# Altium footprint library Conectors.PcbLib: 137 footprints (part 7 of 9)
Each footprint in its own frame and in the unit in brackets; x right, y up, seen from the top. Pads: shape width x height; smd on the part's side, far side on the other; paste and mask are expansions set on the pad; w line width, h text height; cw(c..) or ccw(c..) is an arc to the next point about the centre after c.
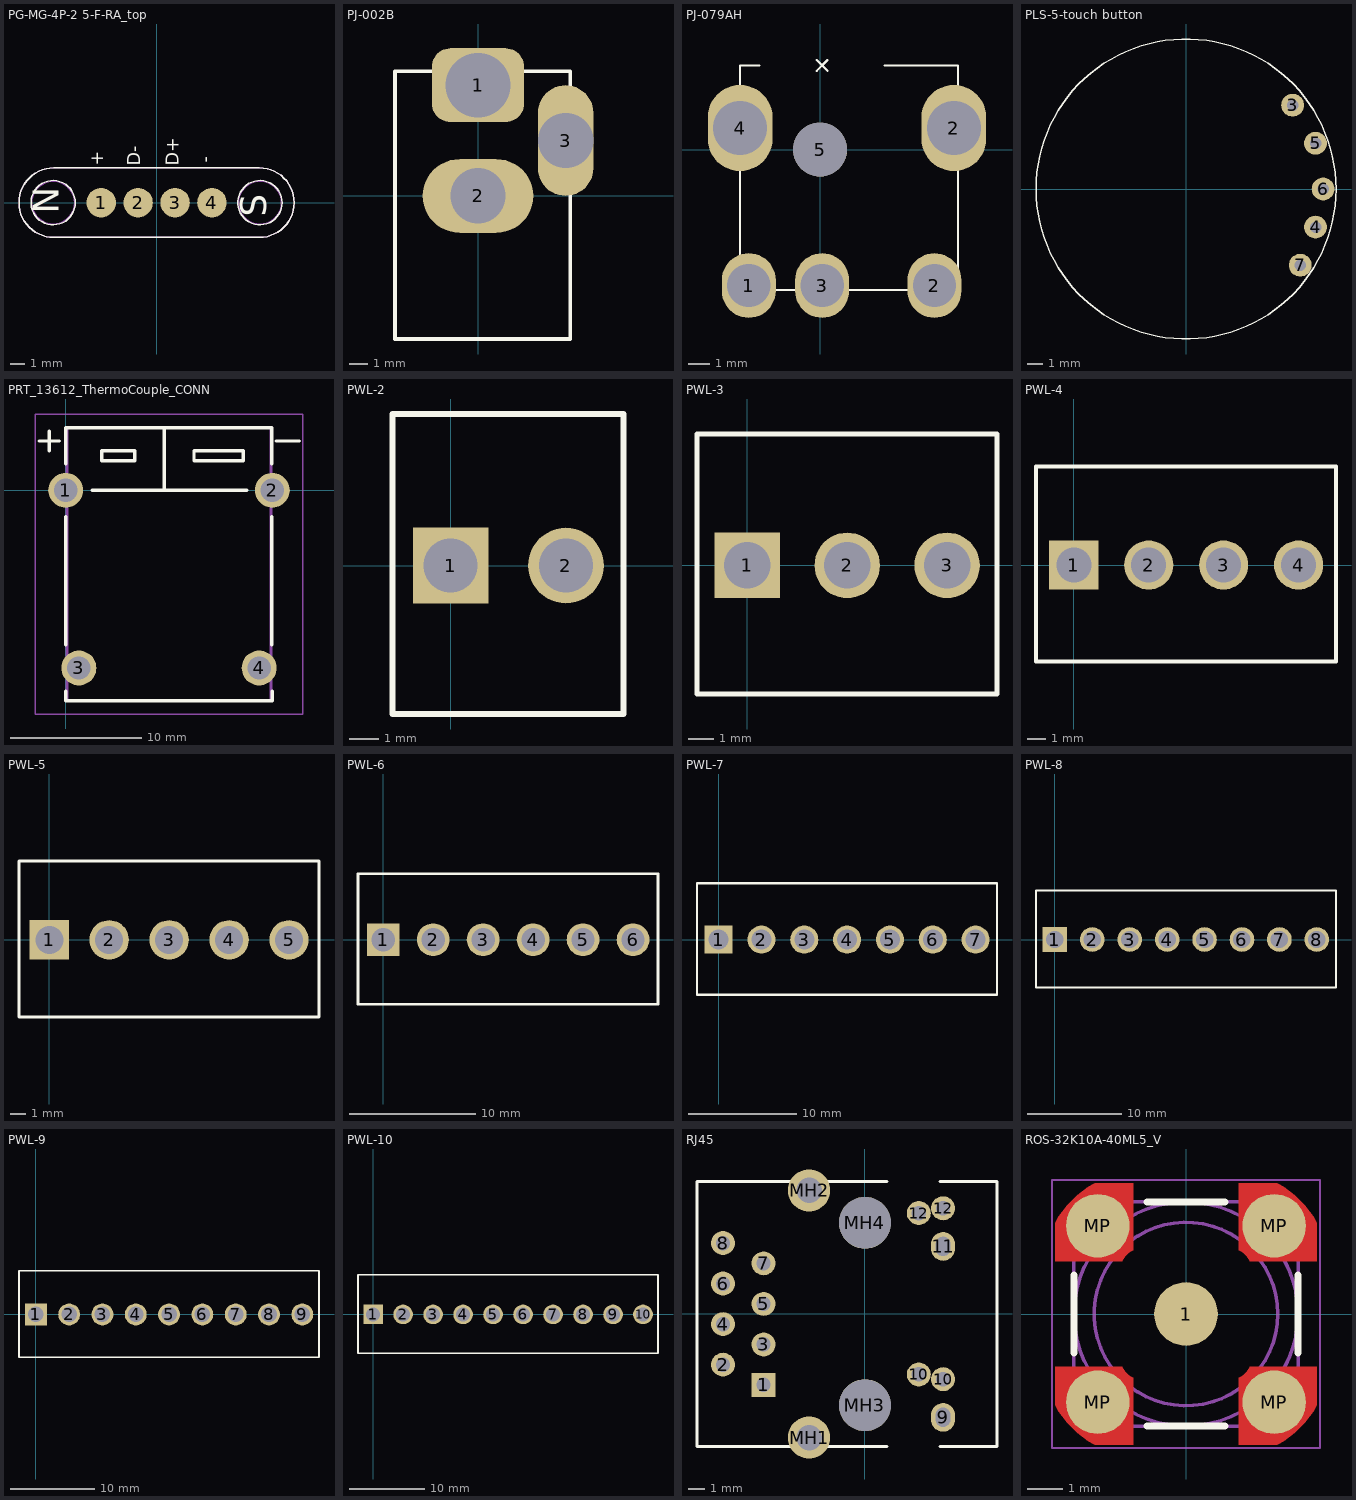
[diagram p6: the footprints below, top view; thin cyan lines are the x and y axes]

## PG-MG-4P-2 5-F-RA_top [mm]
pads (4):
  round 2 smd: 1(-3.75,0) 2(-1.25,0) 3(1.25,0) 4(3.75,0)
Top Overlay:
  circle w0.1: c-7,0 r1.5
  circle w0.1: c7,0 r1.5
  lines w0.1: -6.955,-2.355 cw(c-6.955,0) -6.955,2.355 6.955,2.355 cw(c6.955,0) 6.955,-2.355 -6.955,-2.355
  text "S" at 7.994,-0.963 h3
  text "-" at 4,2.7 h1.5
  text "D+" at 1.8,2.5 h1.5
  text "D-" at -0.8,2.5 h1.5
  text "+" at -3.3,2.5 h1.5
  text "N" at -6.039,-0.757 h3
Mechanical 13:
  circle w0.1: c7,0 r1.45
  circle w0.1: c-7,0 r1.45
Mechanical 15:
  lines w0.1: -6.955,-2.355 cw(c-6.955,0) -6.955,2.355 6.955,2.355 cw(c6.955,0) 6.955,-2.355 -6.955,-2.355
3D body: height 0.15, standoff -3, extent -8.45,-1.45 -5.55,1.45
3D body: height 0.15, standoff -3, extent 5.55,-1.45 8.45,1.45

## PJ-002B [mm] "2.5 mm Center Pin 2.5 A Right Angle Through Hole Dc Power Jack Connector"
height 11
pads (3):
  rrect50% 5x4 hole 3.5: 1(0,6)
  oval 6x4 hole 3: 2(0,0)
  oval 3x6 hole 3: 3(4.75,3)
Top Overlay:
  lines w0.2: -4.5,-7.75 -4.5,6.75 5,6.75 5,-7.75 -4.5,-7.75
3D body "pj-002b.stp": height 11.5, standoff -3, extent -4.4,-7.7 5,6.7

## PJ-079AH [mm]
height 7.3
pads (6):
  oval 2.5x3 hole 2: 1(-3.3,-6.3) 2(5.3,-6.3) 3(0.1,-6.3)
  oval 3x4 hole 2.5: 2(6.2,1) 4(-3.7,1)
  round 2.5 hole 2.5: 5(0,0)
Top Overlay:
  lines w0.1: -3.7,-7.6 -3.7,3.9 -2.8,3.9 ; -3.7,-6.5 6.4,-6.5 6.4,3.9 3,3.9 ; -0.15,3.65 0.35,4.15 ; -0.15,4.15 0.35,3.65
3D body "CUI_DEVICES_PJ-079AH.step": height 7.95, standoff -1.83, extent -3.67,-7.825 6.4,3.825

## PLS-5-touch button [mil]
pads (5):
  round 60 hole 30: 3(280,220) 4(340,-100) 5(340,120) 6(360,0) 7(300,-200)
Top Overlay:
  circle w3.94: c0,0 r393.7

## PRT_13612_ThermoCouple_CONN [mm]
pads (4):
  round 2.655 hole 1.77: 1(0,0) 2(15.7,0) 3(1,-13.5) 4(14.7,-13.5)
Top Overlay:
  lines w0.254: -2,3.75 -0.5,3.75 ; -1.25,3 -1.25,4.5 ; 0,-15.25 0,-16 15.7,-16 15.7,-15.25 ; 0,-11.75 0,-2 ; 0,2 0,4.75 15.65,4.75 15.65,2 ; 7.5,4.75 7.5,0 2,0 13.75,0 ; 10,3 9.75,3 ; 15.65,-11.75 15.65,-2 ; 16,3.75 17.75,3.75 ; 9.75,3 9.75,2.25 13.5,2.25 13.5,3 9.75,3 ; 2.75,2.25 5.25,2.25 5.25,3 2.75,3 2.75,2.25
Mechanical 13:
  lines w0.2: 0.1,-16 0.1,4.8 15.6,4.8 15.6,-16 0.1,-16
Mechanical 15:
  lines w0.1: -2.328,-17 -2.328,5.8 18.027,5.8 18.027,-17 -2.328,-17
3D body "PCC-SMP.STEP": height 6.96, standoff -4.14, extent 0,-16 15.7,4.8

## PWL-2 [mm] "Connector; Header; 2 Position"
height 0.001
pads (2):
  rect 2.6x2.6 hole 1.85: 1(0,0)
  round 2.6 hole 1.85: 2(3.96,0)
Top Overlay:
  lines w0.2: -2,-5.1 -2,5.207 5.94,5.207 5.94,-5.1 -2,-5.1
3D body "PWL-2.stp": height 13.5, standoff -4, extent -1.98,-5 5.94,5

## PWL-3 [mm] "Connector; Header; 3 Position"
height 0.001
pads (3):
  rect 2.6x2.6 hole 1.85: 1(0,0)
  round 2.6 hole 1.85: 2(3.96,0) 3(7.92,0)
Top Overlay:
  lines w0.2: -2,-5.1 9.9,-5.1 9.9,5.207 -2,5.207 -2,-5.1
3D body "PWL-3.stp": height 13.5, standoff -4, extent -1.98,-5 9.9,5

## PWL-4 [mm] "Connector; Header; 4 Position"
height 0.001
pads (4):
  rect 2.6x2.6 hole 1.85: 1(0,0)
  round 2.6 hole 1.85: 2(3.96,0) 3(7.92,0) 4(11.88,0)
Top Overlay:
  lines w0.2: -2,-5.1 13.86,-5.1 13.86,5.207 -2,5.207 -2,-5.1
3D body "PWL-4.stp": height 13.5, standoff -4, extent -1.98,-5 13.86,5

## PWL-5 [mm] "Connector; Header; 5 Position"
height 0.001
pads (5):
  rect 2.6x2.6 hole 1.85: 1(0,0)
  round 2.6 hole 1.85: 2(3.96,0) 3(7.92,0) 4(11.88,0) 5(15.84,0)
Top Overlay:
  lines w0.2: -2,-5.1 17.82,-5.1 17.82,5.207 -2,5.207 -2,-5.1
3D body "PWL-5.stp": height 13.5, standoff -4, extent -1.98,-5 17.82,5

## PWL-6 [mm] "Connector; Header; 6 Position"
height 0.001
pads (6):
  rect 2.6x2.6 hole 1.85: 1(0,0)
  round 2.6 hole 1.85: 2(3.96,0) 3(7.92,0) 4(11.88,0) 5(15.84,0) 6(19.8,0)
Top Overlay:
  lines w0.2: -2,-5.1 -2,5.207 21.78,5.207 21.78,-5.1 -2,-5.1
3D body "PWL-6.stp": height 13.5, standoff -4, extent -1.98,-5 21.78,5

## PWL-7 [mm] "Connector; Header; 7 Position"
height 0.001
pads (7):
  rect 2.6x2.6 hole 1.85: 1(0,0)
  round 2.6 hole 1.85: 2(3.96,0) 3(7.92,0) 4(11.88,0) 5(15.84,0) 6(19.8,0) 7(23.76,0)
Top Overlay:
  lines w0.2: -2,-5.1 25.74,-5.1 25.74,5.207 -2,5.207 -2,-5.1
3D body "PWL-7.stp": height 13.5, standoff -4, extent -1.98,-5 25.74,5

## PWL-8 [mm] "Connector; Header; 8 Position"
height 0.001
pads (8):
  rect 2.6x2.6 hole 1.85: 1(0,0)
  round 2.6 hole 1.85: 2(3.96,0) 3(7.92,0) 4(11.88,0) 5(15.84,0) 6(19.8,0) 7(23.76,0) 8(27.72,0)
Top Overlay:
  lines w0.2: -2,-5.1 -2,5.207 29.75,5.207 29.75,-5.1 -2,-5.1
3D body "PWL-8.stp": height 13.5, standoff -4, extent -1.962,-4.92 29.718,5.08

## PWL-9 [mm] "Connector; Header; 9 Position"
height 0.001
pads (9):
  rect 2.6x2.6 hole 1.85: 1(0,0)
  round 2.6 hole 1.85: 2(3.96,0) 3(7.92,0) 4(11.88,0) 5(15.84,0) 6(19.8,0) 7(23.76,0) 8(27.72,0) 9(31.68,0)
Top Overlay:
  lines w0.2: -2,-5.1 -2,5.207 33.66,5.207 33.66,-5.1 -2,-5.1
3D body "PWL-9.stp": height 13.5, standoff -4, extent -1.98,-5 33.66,5

## PWL-10 [mm] "Connector; Header; 10 Position"
height 0.001
pads (10):
  rect 2.6x2.6 hole 1.85: 1(0,0)
  round 2.6 hole 1.85: 2(3.96,0) 3(7.92,0) 4(11.88,0) 5(15.84,0) 6(19.8,0) 7(23.76,0) 8(27.72,0) 9(31.68,0) 10(35.64,0)
Top Overlay:
  lines w0.2: -2,-5.1 -2,5.207 37.62,5.207 37.62,-5.1 -2,-5.1
3D body "PWL-10.stp": height 13.5, standoff -4, extent -1.98,-5 37.62,5

## RJ45 [mm]
height 12
pads (18):
  rect 1.5x1.5 hole 0.9: 1(-6.35,-4.45)
  round 1.5 hole 0.9: 2(-8.89,-3.18) 3(-6.35,-1.91) 4(-8.89,-0.64) 5(-6.35,0.63) 6(-8.89,1.9) 7(-6.35,3.17) 8(-8.89,4.44) 10(3.38,-3.79) 10(4.9,-4.09) 12(3.38,6.32) 12(4.9,6.62)
  oval 1.5x1.8 hole 0.9 slot 1.2 at 90 deg: 9(4.9,-6.48) 11(4.9,4.23)
  round 2.65 hole 1.6: MH1(-3.5,-7.75) MH2(-3.5,7.74)
  round 3.25 hole 3.25 unplated: MH3(0,-5.72) MH4(0,5.71)
Top Overlay:
  lines w0.2: 1.378,-8.305 -10.52,-8.305 -10.52,8.295 1.378,8.295 ; 4.722,-8.305 8.28,-8.305 8.28,8.295 4.722,8.295
3D body "RJ-45-new.stp": height 12.71, standoff 0, extent -9.75,-7.51 7.75,7.51

## ROS-32K10A-40ML5_V [mm] "SMA Straight Jack, Press-Fit, 6.35x6.35x9.5mm, Rosenberger Recommended"
height 9.5
pads (5):
  round 1.8 smd: 1(0,0) MP(-2.5,-2.5) MP(-2.5,2.5) MP(2.5,-2.5) MP(2.5,2.5)
Top Layer:
  region: 1.5,1.8 1.549,1.777 1.64,1.716 1.716,1.639 1.777,1.549 1.8,1.5 3.7,1.5 3.7,2.587 3.608,2.765 3.371,3.088 3.088,3.371 2.765,3.608 2.587,3.7 1.5,3.7
  region: -1.8,1.5 -1.777,1.549 -1.716,1.64 -1.639,1.716 -1.549,1.777 -1.5,1.8 -1.5,3.7 -2.587,3.7 -2.765,3.608 -3.088,3.371 -3.371,3.088 -3.608,2.765 -3.7,2.587 -3.7,1.5
  region: -1.5,-1.8 -1.549,-1.777 -1.64,-1.716 -1.716,-1.639 -1.777,-1.549 -1.8,-1.5 -3.7,-1.5 -3.7,-2.587 -3.608,-2.765 -3.371,-3.088 -3.088,-3.371 -2.765,-3.608 -2.587,-3.7 -1.5,-3.7
  region: 1.8,-1.5 1.777,-1.549 1.716,-1.64 1.639,-1.716 1.549,-1.777 1.5,-1.8 1.5,-3.7 2.587,-3.7 2.765,-3.608 3.088,-3.371 3.371,-3.088 3.608,-2.765 3.7,-2.587 3.7,-1.5
Top Overlay:
  lines w0.2: -3.175,-1.1 -3.175,1.1 ; -1.1,-3.175 1.1,-3.175 ; -1.1,3.175 1.1,3.175 ; 3.175,-1.1 3.175,1.1
Mechanical 13:
  circle w0.1: c0,0 r0.635
  circle w0.1: c0,0 r2.6
  circle w0.1: c0,0 r3.175
  lines w0.1: -3.188,-2.811 ccw(c0,0) -2.811,-3.188 ; -3.188,2.811 cw(c0,0) -2.811,3.188 ; -3.175,-2.8 -3.175,2.8 ; -3.175,-1.9 -1.9,-1.9 -1.9,-3.175 ; -3.175,1.9 -1.9,1.9 -1.9,3.175 ; -2.8,-3.175 2.8,-3.175 ; -2.8,3.175 2.8,3.175 ; -0.1,-0.627 -0.1,0.627 ; 0.1,-0.627 0.1,0.627 ; 1.9,-3.175 1.9,-1.9 3.175,-1.9 ; 1.9,3.175 1.9,1.9 3.175,1.9 ; 2.811,-3.188 ccw(c0,0) 3.188,-2.811 ; 2.811,3.188 cw(c0,0) 3.188,2.811 ; 3.175,-2.8 3.175,2.8
Mechanical 15:
  lines w0.05: -3.8,-3.8 -3.8,3.8 3.8,3.8 3.8,-3.8 -3.8,-3.8
  lines w0.1: -0.5,0 0.5,0 ; 0,-0.5 0,0.5
3D body "32k10a-40ml5.stp": height 9.5, standoff 0, extent -3.175,-3.175 3.175,3.175